# EAGLE library part 4023BT (library EW_IC_74_Logic)
3 input NAND. Category: Gates Manufacturer: Generic
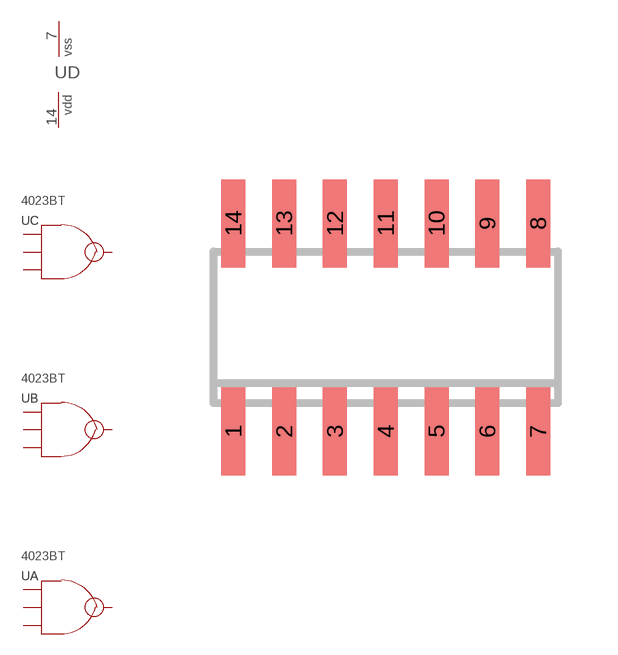
[diagram p88: symbol with the pads of SO14; footprint SO14]

Designator prefix U; gates A=NAND_3 B=NAND_3 C=NAND_3 D=PWRN_1

## 4023BT  [SO14]
1  B:A  pwr
2  B:B  pwr
3  A:A  pwr
4  A:B  pwr
5  A:C  pwr
6  A:Y  pwr
7  D:VSS  pwr
8  B:C  pwr
9  B:Y  pwr
10  C:Y  pwr
11  C:A  pwr
12  C:B  pwr
13  C:C  pwr
14  D:VDD  pwr

## Footprint SO14 (pad centres in mm)
SMALL OUTLINE INTEGRATED CIRCUIT body 3.9 mm/JEDEC MS-012AC
smd 0.6 x 2.2: 1 -3.81,-2.6; 2 -2.54,-2.6; 3 -1.27,-2.6; 4 0,-2.6; 5 1.27,-2.6; 6 2.54,-2.6; 7 3.81,-2.6; 8 3.81,2.6; 9 2.54,2.6; 10 1.27,2.6; 11 0,2.6; 12 -1.27,2.6; 13 -2.54,2.6; 14 -3.81,2.6